# EAGLE library part SAMTEC-SFM-115-02-L-D-DS (library greg-Connector)
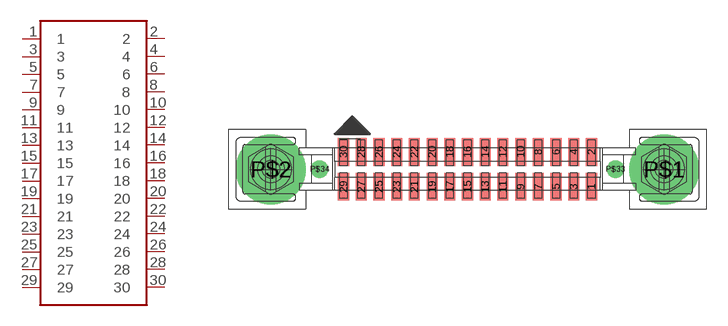
[diagram p5: symbol with the pads of SAMTEC-SFM-115-02-L-D-DS; footprint SAMTEC-SFM-115-02-L-D-DS]

Designator prefix J

## SAMTEC-SFM-115-02-L-D-DS  [SAMTEC-SFM-115-02-L-D-DS]
1  1
2  2
3  3
4  4
5  5
6  6
7  7
8  8
9  9
10  10
11  11
12  12
13  13
14  14
15  15
16  16
17  17
18  18
19  19
20  20
21  21
22  22
23  23
24  24
25  25
26  26
27  27
28  28
29  29
30  30

## Footprint SAMTEC-SFM-115-02-L-D-DS (pad centres in mm)
Samtec board to board plug, 1.27mm pitch, SMD, screw down.
smd 0.8 x 2: 1 8.89,-1.25; 2 8.89,1.25; 3 7.62,-1.25; 4 7.62,1.25; 5 6.35,-1.25; 6 6.35,1.25; 7 5.08,-1.25; 8 5.08,1.25; 9 3.81,-1.25; 10 3.81,1.25; 11 2.54,-1.25; 12 2.54,1.25; 13 1.27,-1.25; 14 1.27,1.25; 15 0,-1.25; 16 0,1.25; 17 -1.27,-1.25; 18 -1.27,1.25; 19 -2.54,-1.25; 20 -2.54,1.25; 21 -3.81,-1.25; 22 -3.81,1.25; 23 -5.08,-1.25; 24 -5.08,1.25; 25 -6.35,-1.25; 26 -6.35,1.25; 27 -7.62,-1.25; 28 -7.62,1.25; 29 -8.89,-1.25; 30 -8.89,1.25
drill 4: P$1 14.095,0; P$2 -14.095,0
drill 0.75: P$33 10.604,0; P$34 -10.604,0